# EAGLE library part A393X (library Marvin)
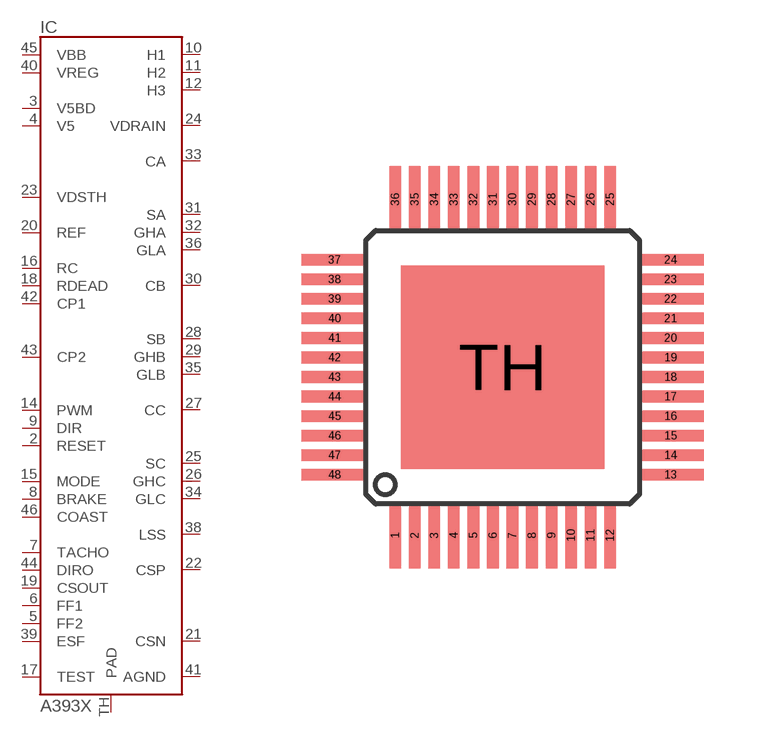
[diagram p0: symbol with the pads of LQFP48-AL; footprint LQFP48-AL]

Designator prefix IC

## A393X  [LQFP48-AL]
2  RESET  in
3  V5BD
4  V5
5  FF2
6  FF1
7  TACHO  out
8  BRAKE  in
9  DIR  in
10  H1
11  H2
12  H3
14  PWM  in
15  MODE  in
16  RC
17  TEST
18  RDEAD
19  CSOUT
20  REF
21  CSN
22  CSP
23  VDSTH
24  VDRAIN
25  SC
26  GHC
27  CC
28  SB
29  GHB
30  CB
31  SA
32  GHA
33  CA
34  GLC
35  GLB
36  GLA
38  LSS
39  ESF
40  VREG
41  AGND
42  CP1
43  CP2
44  DIRO  out
45  VBB
46  COAST  in
TH  PAD

## Footprint LQFP48-AL (pad centres in mm)
smd 0.3 x 1.7: 1 -2.75,-4.3; 2 -2.25,-4.3; 3 -1.75,-4.3; 4 -1.25,-4.3; 5 -0.75,-4.3; 6 -0.25,-4.3; 7 0.25,-4.3; 8 0.75,-4.3; 9 1.25,-4.3; 10 1.75,-4.3; 11 2.25,-4.3; 12 2.75,-4.3; 25 2.75,4.3; 26 2.25,4.3; 27 1.75,4.3; 28 1.25,4.3; 29 0.75,4.3; 30 0.25,4.3; 31 -0.25,4.3; 32 -0.75,4.3; 33 -1.25,4.3; 34 -1.75,4.3; 35 -2.25,4.3; 36 -2.75,4.3
smd 1.7 x 0.3: 13 4.3,-2.75; 14 4.3,-2.25; 15 4.3,-1.75; 16 4.3,-1.25; 17 4.3,-0.75; 18 4.3,-0.25; 19 4.3,0.25; 20 4.3,0.75; 21 4.3,1.25; 22 4.3,1.75; 23 4.3,2.25; 24 4.3,2.75; 37 -4.3,2.75; 38 -4.3,2.25; 39 -4.3,1.75; 40 -4.3,1.25; 41 -4.3,0.75; 42 -4.3,0.25; 43 -4.3,-0.25; 44 -4.3,-0.75; 45 -4.3,-1.25; 46 -4.3,-1.75; 47 -4.3,-2.25; 48 -4.3,-2.75
smd 5.2 x 5.2: TH 0,0